# EAGLE library part A24001-014-S (library con-omnetics)
CONNECTOR wire to board 1.27 mm (0.05") pitch header
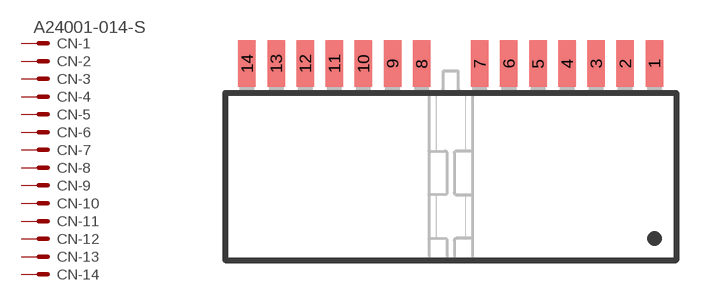
[diagram p7: symbol with the pads of A24001-014; footprint A24001-014]

Designator prefix CN; gates -1=MV -2=M -3=M -4=M -5=M -6=M -7=M -8=M -9=M -10=M -11=M -12=M -13=M -14=M

## A24001-014-S  [A24001-014]
1  -1:S  pas
2  -2:S  pas
3  -3:S  pas
4  -4:S  pas
5  -5:S  pas
6  -6:S  pas
7  -7:S  pas
8  -8:S  pas
9  -9:S  pas
10  -10:S  pas
11  -11:S  pas
12  -12:S  pas
13  -13:S  pas
14  -14:S  pas

## Footprint A24001-014 (pad centres in mm)
Connector SMD right angle, 14 pin
smd 0.762 x 2.032: 1 8.89,5.08; 2 7.62,5.08; 3 6.35,5.08; 4 5.08,5.08; 5 3.81,5.08; 6 2.54,5.08; 7 1.27,5.08; 8 -1.27,5.08; 9 -2.54,5.08; 10 -3.81,5.08; 11 -5.08,5.08; 12 -6.35,5.08; 13 -7.62,5.08; 14 -8.89,5.08